# EAGLE library part STM32L496ZG (library stm32l496zg)
STM32L496xx: Ultra-low-power Arm® Cortex®-M4 32-bit MCU+FPU, 100DMIPS, up to 1MB Flash, 320KB SRAM, USB OTG FS, audio, ext. SMPS The STM32L496xx devices are the ultra-low-power microcontrollers based on the high- performance Arm® Cortex®-M4 32-bit RISC core operating at a frequency of up to 80 MHz. The Cortex-M4 core features a Floating point unit (FPU) single precision which supports all Arm® single-precision data-processing instructions and data types. It also implements a full set of DSP instructions and a memory protection unit (MPU) which enhances application security. The STM32L496xx devices embed high-speed memories (up to 1 Mbyte of Flash memory, 320 Kbyte of SRAM), a flexible external memory controller (FSMC) for static memories (for devices with packages of 100 pins and more), a Quad SPI flash memories interface (available on all packages) and an extensive range of enhanced I/Os and peripherals connected to two APB buses, two AHB buses and a 32-bit multi-AHB bus matrix.
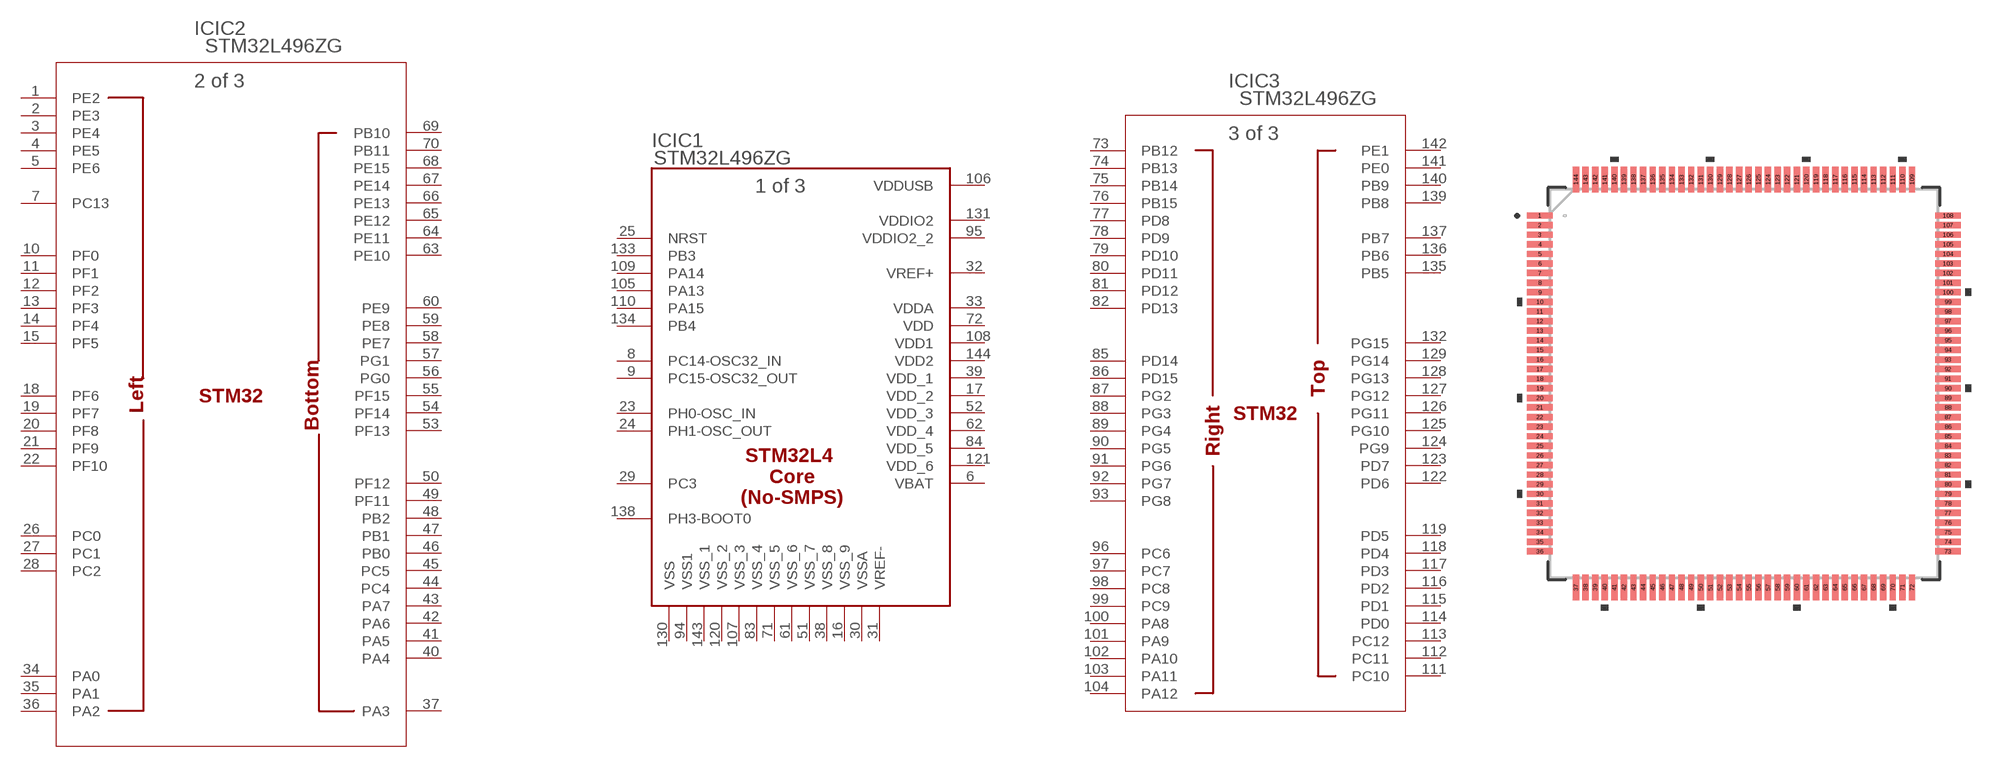
[diagram p1: symbol with the pads of LQFP144-20X20MM; footprint LQFP144-20X20MM]

Designator prefix IC; gates IC1=CORE IC2=PINSA IC3=PINSB

## STM32L496ZG  [LQFP144-20X20MM]
1  IC2:PE2
2  IC2:PE3
3  IC2:PE4
4  IC2:PE5
5  IC2:PE6
6  IC1:VBAT  pwr
7  IC2:PC13
8  IC1:PC14-OSC32_IN
9  IC1:PC15-OSC32_OUT
10  IC2:PF0
11  IC2:PF1
12  IC2:PF2
13  IC2:PF3
14  IC2:PF4
15  IC2:PF5
16  IC1:VSS_9  pwr
17  IC1:VDD_2  pwr
18  IC2:PF6
19  IC2:PF7
20  IC2:PF8
21  IC2:PF9
22  IC2:PF10
23  IC1:PH0-OSC_IN
24  IC1:PH1-OSC_OUT
25  IC1:NRST
26  IC2:PC0
27  IC2:PC1
28  IC2:PC2
29  IC1:PC3
30  IC1:VSSA  pwr
31  IC1:VREF-  pwr
32  IC1:VREF+  pwr
33  IC1:VDDA  pwr
34  IC2:PA0
35  IC2:PA1
36  IC2:PA2
37  IC2:PA3
38  IC1:VSS_8  pwr
39  IC1:VDD_1  pwr
40  IC2:PA4
41  IC2:PA5
42  IC2:PA6
43  IC2:PA7
44  IC2:PC4
45  IC2:PC5
46  IC2:PB0
47  IC2:PB1
48  IC2:PB2
49  IC2:PF11
50  IC2:PF12
51  IC1:VSS_7  pwr
52  IC1:VDD_3  pwr
53  IC2:PF13
54  IC2:PF14
55  IC2:PF15
56  IC2:PG0
57  IC2:PG1
58  IC2:PE7
59  IC2:PE8
60  IC2:PE9
61  IC1:VSS_6  pwr
62  IC1:VDD_4  pwr
63  IC2:PE10
64  IC2:PE11
65  IC2:PE12
66  IC2:PE13
67  IC2:PE14
68  IC2:PE15
69  IC2:PB10
70  IC2:PB11
71  IC1:VSS_5  pwr
72  IC1:VDD  pwr
73  IC3:PB12
74  IC3:PB13
75  IC3:PB14
76  IC3:PB15
77  IC3:PD8
78  IC3:PD9
79  IC3:PD10
80  IC3:PD11
81  IC3:PD12
82  IC3:PD13
83  IC1:VSS_4  pwr
84  IC1:VDD_5  pwr
85  IC3:PD14
86  IC3:PD15
87  IC3:PG2
88  IC3:PG3
89  IC3:PG4
90  IC3:PG5
91  IC3:PG6
92  IC3:PG7
93  IC3:PG8
94  IC1:VSS1  pwr
95  IC1:VDDIO2_2  pwr
96  IC3:PC6
97  IC3:PC7
98  IC3:PC8
99  IC3:PC9
100  IC3:PA8
101  IC3:PA9
102  IC3:PA10
103  IC3:PA11
104  IC3:PA12
105  IC1:PA13
106  IC1:VDDUSB  pwr
107  IC1:VSS_3  pwr
108  IC1:VDD1  pwr
109  IC1:PA14
110  IC1:PA15
111  IC3:PC10
112  IC3:PC11
113  IC3:PC12
114  IC3:PD0
115  IC3:PD1
116  IC3:PD2
117  IC3:PD3
118  IC3:PD4
119  IC3:PD5
120  IC1:VSS_2  pwr
121  IC1:VDD_6  pwr
122  IC3:PD6
123  IC3:PD7
124  IC3:PG9
125  IC3:PG10
126  IC3:PG11
127  IC3:PG12
128  IC3:PG13
129  IC3:PG14
130  IC1:VSS  pwr
131  IC1:VDDIO2  pwr
132  IC3:PG15
133  IC1:PB3
134  IC1:PB4
135  IC3:PB5
136  IC3:PB6
137  IC3:PB7
138  IC1:PH3-BOOT0
139  IC3:PB8
140  IC3:PB9
141  IC3:PE0
142  IC3:PE1
143  IC1:VSS_1  pwr
144  IC1:VDD2  pwr

## Footprint LQFP144-20X20MM (pad centres in mm)
smd 1.346 x 0.33: 1 -10.625,8.75; 2 -10.625,8.25; 3 -10.625,7.75; 4 -10.625,7.25; 5 -10.625,6.75; 6 -10.625,6.25; 7 -10.625,5.75; 8 -10.625,5.25; 9 -10.625,4.75; 10 -10.625,4.25; 11 -10.625,3.75; 12 -10.625,3.25; 13 -10.625,2.75; 14 -10.625,2.25; 15 -10.625,1.75; 16 -10.625,1.25; 17 -10.625,0.75; 18 -10.625,0.25; 19 -10.625,-0.25; 20 -10.625,-0.75; 21 -10.625,-1.25; 22 -10.625,-1.75; 23 -10.625,-2.25; 24 -10.625,-2.75; 25 -10.625,-3.25; 26 -10.625,-3.75; 27 -10.625,-4.25; 28 -10.625,-4.75; 29 -10.625,-5.25; 30 -10.625,-5.75; 31 -10.625,-6.25; 32 -10.625,-6.75; 33 -10.625,-7.25; 34 -10.625,-7.75; 35 -10.625,-8.25; 36 -10.625,-8.75; 73 10.625,-8.75; 74 10.625,-8.25; 75 10.625,-7.75; 76 10.625,-7.25; 77 10.625,-6.75; 78 10.625,-6.25; 79 10.625,-5.75; 80 10.625,-5.25; 81 10.625,-4.75; 82 10.625,-4.25; 83 10.625,-3.75; 84 10.625,-3.25; 85 10.625,-2.75; 86 10.625,-2.25; 87 10.625,-1.75; 88 10.625,-1.25; 89 10.625,-0.75; 90 10.625,-0.25; 91 10.625,0.25; 92 10.625,0.75; 93 10.625,1.25; 94 10.625,1.75; 95 10.625,2.25; 96 10.625,2.75; 97 10.625,3.25; 98 10.625,3.75; 99 10.625,4.25; 100 10.625,4.75; 101 10.625,5.25; 102 10.625,5.75; 103 10.625,6.25; 104 10.625,6.75; 105 10.625,7.25; 106 10.625,7.75; 107 10.625,8.25; 108 10.625,8.75
smd 0.33 x 1.346: 37 -8.75,-10.625; 38 -8.25,-10.625; 39 -7.75,-10.625; 40 -7.25,-10.625; 41 -6.75,-10.625; 42 -6.25,-10.625; 43 -5.75,-10.625; 44 -5.25,-10.625; 45 -4.75,-10.625; 46 -4.25,-10.625; 47 -3.75,-10.625; 48 -3.25,-10.625; 49 -2.75,-10.625; 50 -2.25,-10.625; 51 -1.75,-10.625; 52 -1.25,-10.625; 53 -0.75,-10.625; 54 -0.25,-10.625; 55 0.25,-10.625; 56 0.75,-10.625; 57 1.25,-10.625; 58 1.75,-10.625; 59 2.25,-10.625; 60 2.75,-10.625; 61 3.25,-10.625; 62 3.75,-10.625; 63 4.25,-10.625; 64 4.75,-10.625; 65 5.25,-10.625; 66 5.75,-10.625; 67 6.25,-10.625; 68 6.75,-10.625; 69 7.25,-10.625; 70 7.75,-10.625; 71 8.25,-10.625; 72 8.75,-10.625; 109 8.75,10.625; 110 8.25,10.625; 111 7.75,10.625; 112 7.25,10.625; 113 6.75,10.625; 114 6.25,10.625; 115 5.75,10.625; 116 5.25,10.625; 117 4.75,10.625; 118 4.25,10.625; 119 3.75,10.625; 120 3.25,10.625; 121 2.75,10.625; 122 2.25,10.625; 123 1.75,10.625; 124 1.25,10.625; 125 0.75,10.625; 126 0.25,10.625; 127 -0.25,10.625; 128 -0.75,10.625; 129 -1.25,10.625; 130 -1.75,10.625; 131 -2.25,10.625; 132 -2.75,10.625; 133 -3.25,10.625; 134 -3.75,10.625; 135 -4.25,10.625; 136 -4.75,10.625; 137 -5.25,10.625; 138 -5.75,10.625; 139 -6.25,10.625; 140 -6.75,10.625; 141 -7.25,10.625; 142 -7.75,10.625; 143 -8.25,10.625; 144 -8.75,10.625